# EAGLE library part SIL10 (library lib_paul)
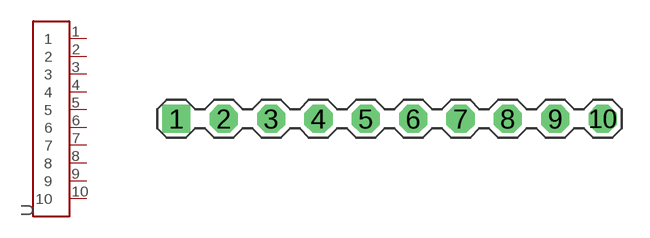
[diagram p6: symbol with the pads of CON10-2.54; footprint CON10-2.54]

Designator prefix -

## SIL10  [CON10-2.54]
1  1
2  2
3  3
4  4
5  5
6  6
7  7
8  8
9  9
10  10

## Footprint CON10-2.54 (pad centres in mm)
drill 1 square: 1 -11.43,0
drill 1 octagon: 2 -8.89,0; 3 -6.35,0; 4 -3.81,0; 5 -1.27,0; 6 1.27,0; 7 3.81,0; 8 6.35,0; 9 8.89,0; 10 11.43,0